# EAGLE library part EPM3128ATC100 (library max3000a)
EPM3128 MAX 3000A family
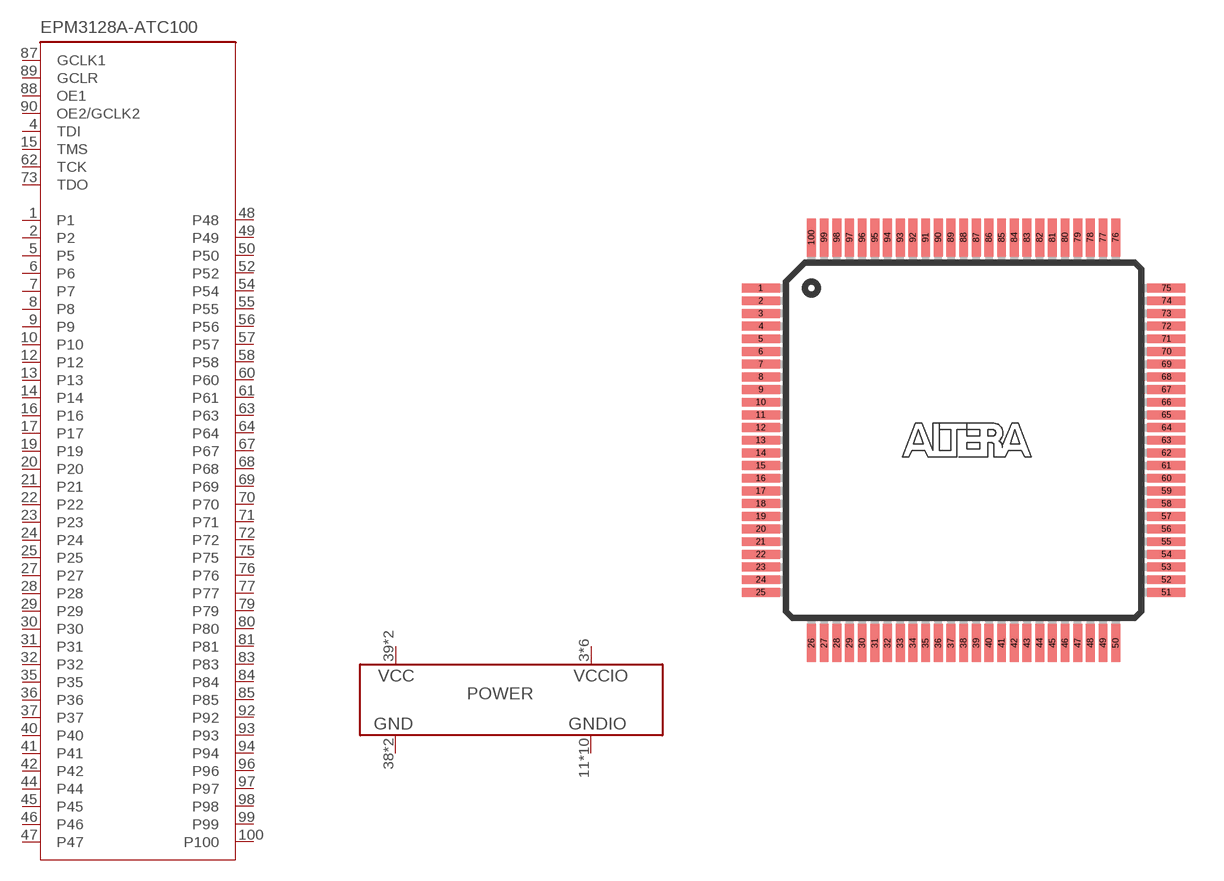
[diagram p0: symbol with the pads of TQFP100; footprint TQFP100]

Designator prefix IC; gates _=EPM3128A-100 P=PWR8-2-6

## EPM3128ATC100 (MPN: EPM3128ATC100-7N)  [TQFP100]
1  _:P1
2  _:P2
3  P:VCCIO  pwr
4  _:TDI
5  _:P5
6  _:P6
7  _:P7
8  _:P8
9  _:P9
10  _:P10
11  P:GNDIO  pwr
12  _:P12
13  _:P13
14  _:P14
15  _:TMS
16  _:P16
17  _:P17
18  P:VCCIO  pwr
19  _:P19
20  _:P20
21  _:P21
22  _:P22
23  _:P23
24  _:P24
25  _:P25
26  P:GNDIO  pwr
27  _:P27
28  _:P28
29  _:P29
30  _:P30
31  _:P31
32  _:P32
33  P:GNDIO  pwr
34  P:VCCIO  pwr
35  _:P35
36  _:P36
37  _:P37
38  P:GND  pwr
39  P:VCC  pwr
40  _:P40
41  _:P41
42  _:P42
43  P:GNDIO  pwr
44  _:P44
45  _:P45
46  _:P46
47  _:P47
48  _:P48
49  _:P49
50  _:P50
51  P:VCCIO  pwr
52  _:P52
53  P:GNDIO  pwr
54  _:P54
55  _:P55
56  _:P56
57  _:P57
58  _:P58
59  P:GNDIO  pwr
60  _:P60
61  _:P61
62  _:TCK
63  _:P63
64  _:P64
65  P:GNDIO  pwr
66  P:VCCIO  pwr
67  _:P67
68  _:P68
69  _:P69
70  _:P70
71  _:P71
72  _:P72
73  _:TDO
74  P:GNDIO  pwr
75  _:P75
76  _:P76
77  _:P77
78  P:GNDIO  pwr
79  _:P79
80  _:P80
81  _:P81
82  P:VCCIO  pwr
83  _:P83
84  _:P84
85  _:P85
86  P:GND  pwr
87  _:GCLK1  in
88  _:OE1  in
89  _:GCLR  in
90  _:OE2/GCLK2  in
91  P:VCC  pwr
92  _:P92
93  _:P93
94  _:P94
95  P:GNDIO  pwr
96  _:P96
97  _:P97
98  _:P98
99  _:P99
100  _:P100

## Footprint TQFP100 (pad centres in mm)
Plastic Thin Quad Flat Pack
smd 1.5 x 0.35: 1 -8,6; 2 -8,5.5; 3 -8,5; 4 -8,4.5; 5 -8,4; 6 -8,3.5; 7 -8,3; 8 -8,2.5; 9 -8,2; 10 -8,1.5; 11 -8,1; 12 -8,0.5; 13 -8,0; 14 -8,-0.5; 15 -8,-1; 16 -8,-1.5; 17 -8,-2; 18 -8,-2.5; 19 -8,-3; 20 -8,-3.5; 21 -8,-4; 22 -8,-4.5; 23 -8,-5; 24 -8,-5.5; 25 -8,-6; 51 8,-6; 52 8,-5.5; 53 8,-5; 54 8,-4.5; 55 8,-4; 56 8,-3.5; 57 8,-3; 58 8,-2.5; 59 8,-2; 60 8,-1.5; 61 8,-1; 62 8,-0.5; 63 8,0; 64 8,0.5; 65 8,1; 66 8,1.5; 67 8,2; 68 8,2.5; 69 8,3; 70 8,3.5; 71 8,4; 72 8,4.5; 73 8,5; 74 8,5.5; 75 8,6
smd 0.35 x 1.5: 26 -6,-8; 27 -5.5,-8; 28 -5,-8; 29 -4.5,-8; 30 -4,-8; 31 -3.5,-8; 32 -3,-8; 33 -2.5,-8; 34 -2,-8; 35 -1.5,-8; 36 -1,-8; 37 -0.5,-8; 38 0,-8; 39 0.5,-8; 40 1,-8; 41 1.5,-8; 42 2,-8; 43 2.5,-8; 44 3,-8; 45 3.5,-8; 46 4,-8; 47 4.5,-8; 48 5,-8; 49 5.5,-8; 50 6,-8; 76 6,8; 77 5.5,8; 78 5,8; 79 4.5,8; 80 4,8; 81 3.5,8; 82 3,8; 83 2.5,8; 84 2,8; 85 1.5,8; 86 1,8; 87 0.5,8; 88 0,8; 89 -0.5,8; 90 -1,8; 91 -1.5,8; 92 -2,8; 93 -2.5,8; 94 -3,8; 95 -3.5,8; 96 -4,8; 97 -4.5,8; 98 -5,8; 99 -5.5,8; 100 -6,8